# Altium schematic symbol library other.SchLib: 3 symbols
Pins are listed as number, name and electrical type; pins without a type are passive.

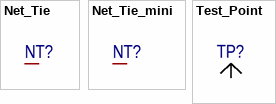
[diagram p0: symbols Net_Tie to Test_Point]

## Net_Tie
designator NT?
footprint Net_Tie
pins: 1, 2

## Net_Tie_mini
designator NT?
footprint NET TIE 0.5_mini
pins: 1, 2

## Test_Point
designator TP?
footprint TEST POINT KEYSTONE
pins: 1